# Altium schematic symbol library AR06.SchLib: 2 symbols
Pins are listed as number, name and electrical type; pins without a type are passive.

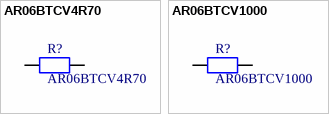
[diagram p0: symbols AR06BTCV4R70 to AR06BTCV1000]

## AR06BTCV4R70
designator R?
footprint AR06
pins: 1, 2

## AR06BTCV1000
designator R?
footprint AR06
pins: 1, 2